# EAGLE library part STM32F030F4P6 (library st-microelectronics)
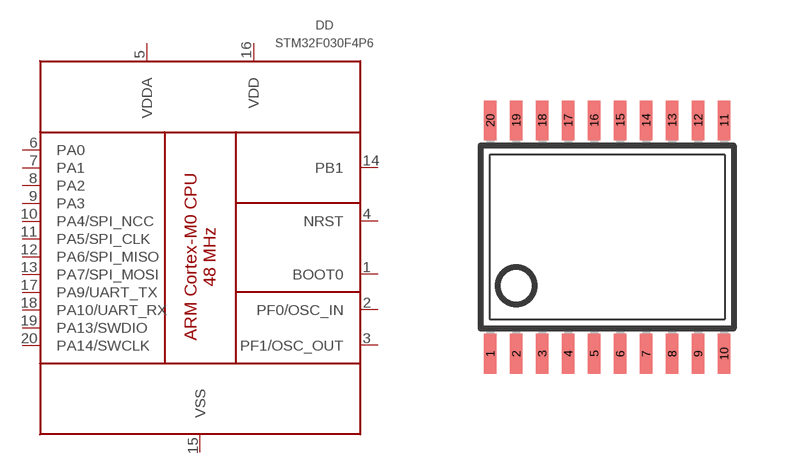
[diagram p8: symbol with the pads of TSSOP20; footprint TSSOP20]

Designator prefix DD

## STM32F030F4P6  [TSSOP20]
1  BOOT0  in
2  PF0/OSC_IN
3  PF1/OSC_OUT
4  NRST  in
5  VDDA  pwr
6  PA0
7  PA1
8  PA2
9  PA3
10  PA4/SPI_NCC
11  PA5/SPI_CLK
12  PA6/SPI_MISO
13  PA7/SPI_MOSI
14  PB1
15  VSS  pwr
16  VDD  pwr
17  PA9/UART_TX
18  PA10/UART_RX
19  PA13/SWDIO
20  PA14/SWCLK

## Footprint TSSOP20 (pad centres in mm)
Thin Shrink Small Outline Plastic 20 MAX3223-MAX3243.pdf
smd 0.305 x 0.991: 1 -2.925,-2.918; 2 -2.275,-2.918; 3 -1.625,-2.918; 4 -0.975,-2.918; 5 -0.325,-2.918; 6 0.325,-2.918; 7 0.975,-2.918; 8 1.625,-2.918; 9 2.275,-2.918; 10 2.925,-2.918; 11 2.925,2.918; 12 2.275,2.918; 13 1.625,2.918; 14 0.975,2.918; 15 0.325,2.918; 16 -0.325,2.918; 17 -0.975,2.918; 18 -1.625,2.918; 19 -2.275,2.918; 20 -2.925,2.918